# EAGLE library part TXB0104DR (library TXB0104DR)
4-Bit Bidirectional Voltage-Level Shifter with Auto Direction Sensing and +/-15 kV ESD Protect Source: Datasheet <http://www.ti.com/lit/gpn/txb0104>
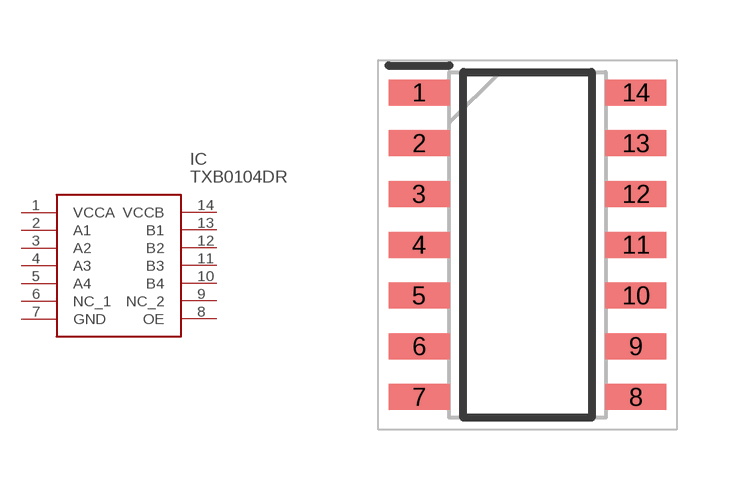
[diagram p0: symbol with the pads of SOIC127P600X175-14N; footprint SOIC127P600X175-14N]

Designator prefix IC

## TXB0104DR (Description: 4-Bit Bidirectional Voltage-Level Shifter with Auto Direction Sensing and +/-15 kV ESD Protect; Height: 1.75mm; Manufacturer_Name: Texas Instruments; Manufacturer_Part_Number: TXB0104DR; Mouser_Part_Number: 595-TXB0104DR; Mouser_Price-Stock: https://www.mouser.co.uk/ProductDetail/Texas-Instruments/TXB0104DR?qs=oFXvjAmG9EgBSYD5QAjkqQ%3D%3D)  [SOIC127P600X175-14N]
1  VCCA
2  A1
3  A2
4  A3
5  A4
6  NC_1
7  GND
8  OE
9  NC_2
10  B4
11  B3
12  B2
13  B1
14  VCCB

## Footprint SOIC127P600X175-14N (pad centres in mm)
D(R-DPSO-G14)
smd 1.525 x 0.65: 1 -2.712,3.81; 2 -2.712,2.54; 3 -2.712,1.27; 4 -2.712,0; 5 -2.712,-1.27; 6 -2.712,-2.54; 7 -2.712,-3.81; 8 2.712,-3.81; 9 2.712,-2.54; 10 2.712,-1.27; 11 2.712,0; 12 2.712,1.27; 13 2.712,2.54; 14 2.712,3.81